# EAGLE library part MOUDLE-SEEEDUINO-XIAO-TEST (library moudle-new)
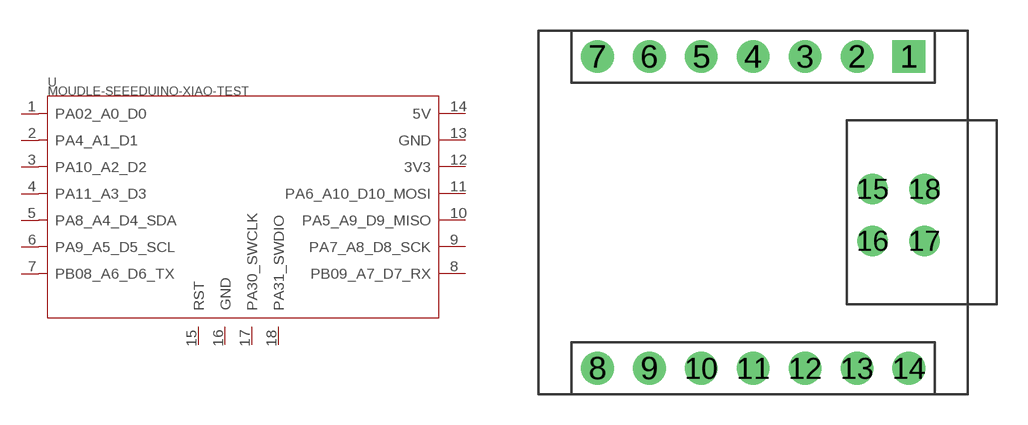
[diagram p0: symbol with the pads of MOUDLE14P-2.54-21X17.8MM-TEST; footprint MOUDLE14P-2.54-21X17.8MM-TEST]

Designator prefix U

## MOUDLE-SEEEDUINO-XIAO-TEST-DIP  [MOUDLE14P-2.54-21X17.8MM-TEST]
1  PA02_A0_D0
2  PA4_A1_D1
3  PA10_A2_D2
4  PA11_A3_D3
5  PA8_A4_D4_SDA
6  PA9_A5_D5_SCL
7  PB08_A6_D6_TX
8  PB09_A7_D7_RX
9  PA7_A8_D8_SCK
10  PA5_A9_D9_MISO
11  PA6_A10_D10_MOSI
12  3V3
13  GND
14  5V
15  RST
16  GND
17  PA30_SWCLK
18  PA31_SWDIO

## Footprint MOUDLE14P-2.54-21X17.8MM-TEST (pad centres in mm)
drill 1 pad 1.6 square: 1 7.62,7.62
drill 1 pad 1.6: 2 5.08,7.62; 3 2.54,7.62; 4 0,7.62; 5 -2.54,7.62; 6 -5.08,7.62; 7 -7.62,7.62; 8 -7.62,-7.62; 9 -5.08,-7.62; 10 -2.54,-7.62; 11 0,-7.62; 12 2.54,-7.62; 13 5.08,-7.62; 14 7.62,-7.62
drill 0.8 pad 1.5: 15 5.842,1.143; 16 5.842,-1.397; 17 8.382,-1.397; 18 8.382,1.143